# Altium footprint library SRN6045.PcbLib: 1 footprints
Each footprint in its own frame and in the unit in brackets; x right, y up, seen from the top. Pads: shape width x height; smd on the part's side, far side on the other; paste and mask are expansions set on the pad; w line width, h text height; cw(c..) or ccw(c..) is an arc to the next point about the centre after c.
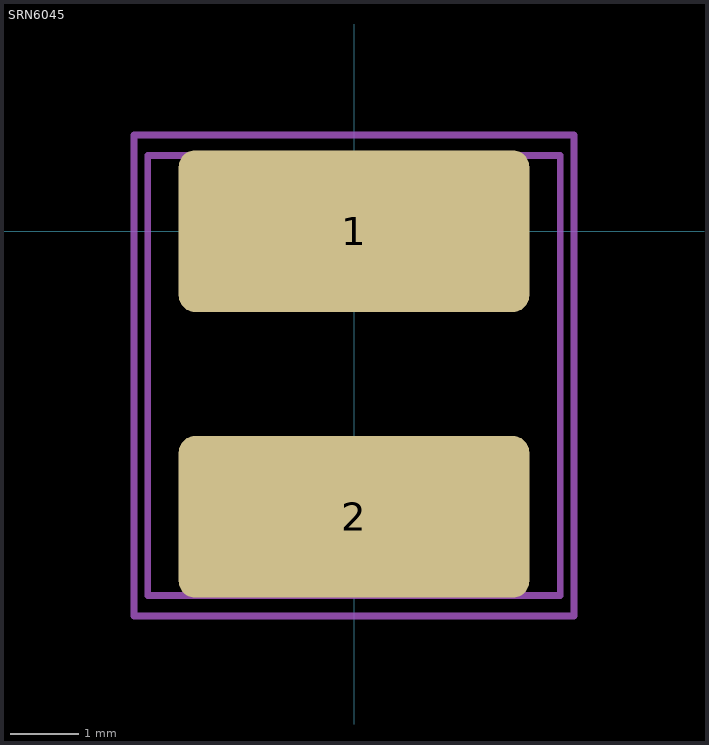
[diagram p0: the footprint, top view; thin cyan lines are the x and y axes]

## SRN6045 [mm]
pads (2):
  rrect20% 5.1x2.35 smd: 1(0,0) 2(0,-4.156)
Top Assembly:
  lines w0.1: -3,-5.3 3,-5.3 3,1.1 -3,1.1 -3,-5.3
Top Courtyard:
  lines w0.1: -3.2,-5.6 3.2,-5.6 3.2,1.4 -3.2,1.4 -3.2,-5.6
3D body "User Library-SRN6045 Series.step": height 4.5, standoff 0, extent -3,-5.25 3,1.05